# EAGLE library part NANO (library ArduinoNanoScaryDoll)
Arduino Nano
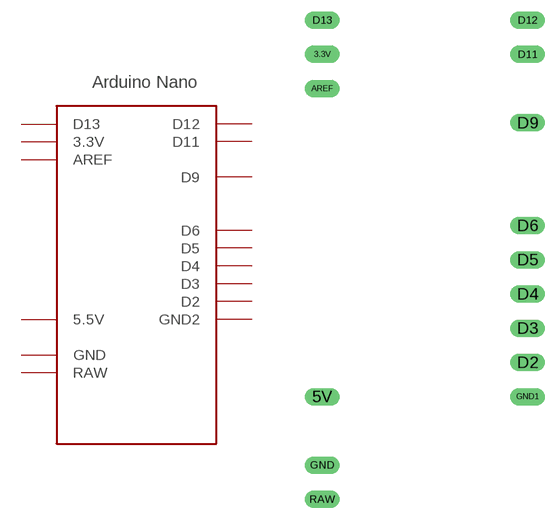
[diagram p3: symbol with the pads of NANO; footprint NANO]

Designator prefix -

## NANO  [NANO]
3.3V  3.3V
5V  5.5V
AREF  AREF
D2  D2
D3  D3
D4  D4
D5  D5
D6  D6
D9  D9
D11  D11
D12  D12
D13  D13
GND  GND
GND1  GND2
RAW  RAW

## Footprint NANO (pad centres in mm)
drill 0.8 long: 3.3V -10.16,24.13; 5V -10.16,-1.27; AREF -10.16,21.59; D2 5.08,1.27; D3 5.08,3.81; D4 5.08,6.35; D5 5.08,8.89; D6 5.08,11.43; D9 5.08,19.05; D11 5.08,24.13; D12 5.08,26.67; D13 -10.16,26.67; GND -10.16,-6.35; GND1 5.08,-1.27; RAW -10.16,-8.89